# Altium footprint library APX809S.PcbLib: 1 footprints
Each footprint in its own frame and in the unit in brackets; x right, y up, seen from the top. Pads: shape width x height; smd on the part's side, far side on the other; paste and mask are expansions set on the pad; w line width, h text height; cw(c..) or ccw(c..) is an arc to the next point about the centre after c.
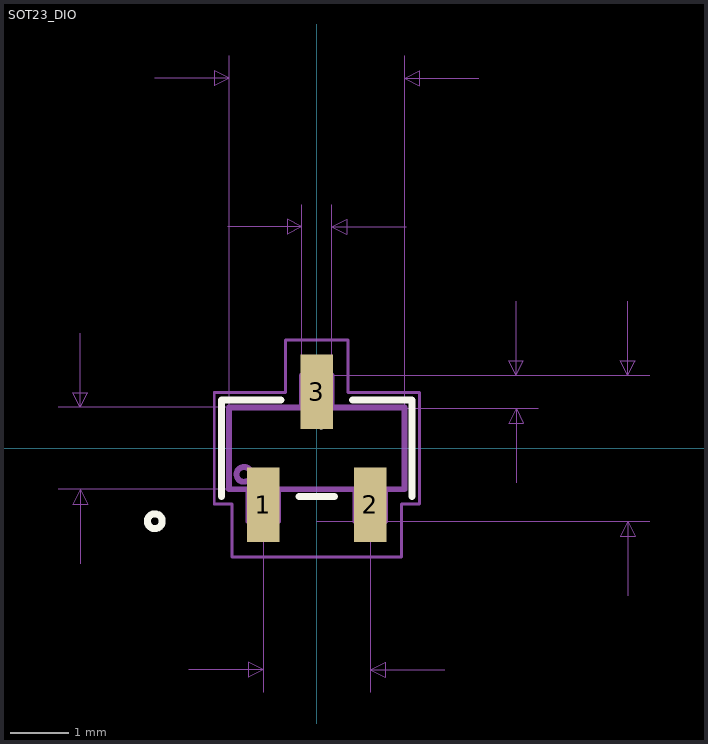
[diagram p0: the footprint, top view; thin cyan lines are the x and y axes]

## SOT23_DIO [mil]
pads (3):
  rect 22x50 smd: 1(-36.02,-38) 2(36.02,-38) 3(0,38)
F.SilkS:
  circle w4.72: c-109,-49 r5
  lines w4.72: -64,-32.5 -64,32.5 -24.1,32.5 ; -11.92,-32.5 11.92,-32.5 ; 24.1,32.5 64,32.5 64,-32.5
  text "*" at -4.8,-4.6 h39.37
F.CrtYd:
  lines w1.97: -69,-37.5 -69,37.5 ; -69,-37.5 -57.02,-37.5 ; -69,-37.5 -57.02,-37.5 ; -69,-37.5 -69,37.5 ; -69,37.5 -21,37.5 ; -69,37.5 -21,37.5 ; -57.02,-73 -57.02,-37.5 ; -57.02,-73 57.02,-73 ; -57.02,-73 57.02,-73 ; -57.02,-73 -57.02,-37.5 ; -21,37.5 -21,73 ; -21,37.5 -21,73 ; -21,73 21,73 ; -21,73 21,73 ; 21,37.5 21,73 ; 21,37.5 69,37.5 ; 21,37.5 21,73 ; 21,37.5 69,37.5 ; 57.02,-73 57.02,-37.5 ; 57.02,-73 57.02,-37.5 ; 57.02,-37.5 69,-37.5 ; 57.02,-37.5 69,-37.5 ; 69,-37.5 69,37.5 ; 69,-37.5 69,37.5 ; -59,-27.5 -59,27.5 59,27.5 59,-27.5 -59,-27.5
F.Fab:
  circle w3.94: c-49,-17.5 r5
  lines w3.94: -59,-27.5 59,-27.5 59,27.5 -59,27.5 -59,-27.5 ; -46.02,-49 -46.02,-27.5 -26.02,-27.5 -26.02,-49 -46.02,-49 ; -10,27.5 10,27.5 10,49 -10,49 -10,27.5 ; 26.02,-49 26.02,-27.5 46.02,-27.5 46.02,-49 26.02,-49
  text "*" at -4.8,-4.6 h39.37
Cmts.User:
  lines w0: -174,-27.5 0,-27.5 ; -174,27.5 0,27.5 ; -159,-77.5 -159,-27.5 ; -159,77.5 -159,27.5 ; -109,249 -59,249 ; -86.02,-149 -36.02,-149 ; -60,149 -10,149 ; -59,27.5 -59,264 ; -36.02,-164 -36.02,-49 ; -10,49 -10,164 ; 0,-49 224,-49 ; 0,27 149,27 ; 10,49 10,164 ; 36.02,-164 36.02,-49 ; 59,27.5 59,264 ; 60,149 10,149 ; 86.02,-149 36.02,-149 ; 109,249 59,249 ; 134,-23 134,27 ; 134,99 134,49 ; 149,49 0,49 224,49 ; 209,-99 209,-49 ; 209,99 209,49 ; -159,-27.5 -164,-37.5 -154,-37.5 -159,-27.5 ; -159,27.5 -164,37.5 -154,37.5 -159,27.5 ; -59,249 -69,254 -69,244 -59,249 ; -36.02,-149 -46.02,-144 -46.02,-154 -36.02,-149 ; -10,149 -20,154 -20,144 -10,149 ; 10,149 20,154 20,144 10,149 ; 36.02,-149 46.02,-144 46.02,-154 36.02,-149 ; 59,249 69,254 69,244 59,249 ; 134,27 129,17 139,17 134,27 ; 134,49 129,59 139,59 134,49 ; 209,-49 204,-59 214,-59 209,-49 ; 209,49 204,59 214,59 209,49
  text "Copyright 2021 Accelerated Designs. All rights reserved." at -33.91,-1.92 h5